# EAGLE library part DG408DJZ (library Intersil_By_element14_Batch_1)
CMOS Analog Multiplexers
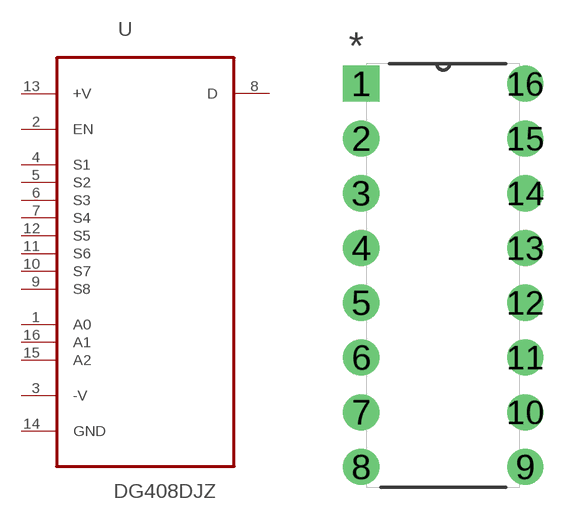
[diagram p32: symbol with the pads of DIP254P762X533-16; footprint DIP254P762X533-16]

Designator prefix U

## DG408DJZ (MPN: DG408DJZ; OC_FARNELL: 9663517; OC_NEWARK: 61J5528; PACKAGE: PDIP-16; SUPPLIER: Intersil)  [DIP254P762X533-16]
1  A0  in
2  EN  in
3  -V  pwr
4  S1  in
5  S2  in
6  S3  in
7  S4  in
8  D  out
9  S8  in
10  S7  in
11  S6  in
12  S5  in
13  +V  pwr
14  GND  pas
15  A2  in
16  A1  in

## Footprint DIP254P762X533-16 (pad centres in mm)
drill 1.118 square: 1 -7.62,17.78
drill 1.118: 2 -7.62,15.24; 3 -7.62,12.7; 4 -7.62,10.16; 5 -7.62,7.62; 6 -7.62,5.08; 7 -7.62,2.54; 8 -7.62,0; 9 0,0; 10 0,2.54; 11 0,5.08; 12 0,7.62; 13 0,10.16; 14 0,12.7; 15 0,15.24; 16 0,17.78